# EAGLE library part FLASH-MEMORY-2M(WINBOND) (library FaBo-Parts)
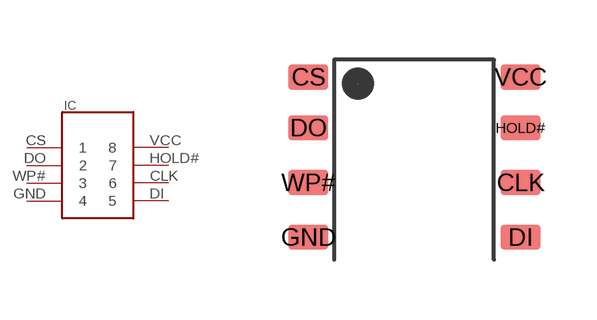
[diagram p10: symbol with the pads of FLASH-MEMORY-2M(WINBOND); footprint FLASH-MEMORY-2M(WINBOND)]

Designator prefix IC

## FLASH-MEMORY-2M(WINBOND)  [FLASH-MEMORY-2M(WINBOND)]
CLK  6
CS  1
DI  5
DO  2
GND  4
HOLD#  7
VCC  8
WP#  3

## Footprint FLASH-MEMORY-2M(WINBOND) (pad centres in mm)
smd 1 x 0.635: CLK 2.67,0.2; CS -2.64,2.84; DI 2.67,-1.17; DO -2.64,1.57; GND -2.64,-1.17; HOLD# 2.67,1.57; VCC 2.67,2.84; WP# -2.64,0.2